# Altium footprint library SAMTEC_SSQ-105-03-S-S.PcbLib: 1 footprints
Each footprint in its own frame and in the unit in brackets; x right, y up, seen from the top. Pads: shape width x height; smd on the part's side, far side on the other; paste and mask are expansions set on the pad; w line width, h text height; cw(c..) or ccw(c..) is an arc to the next point about the centre after c.
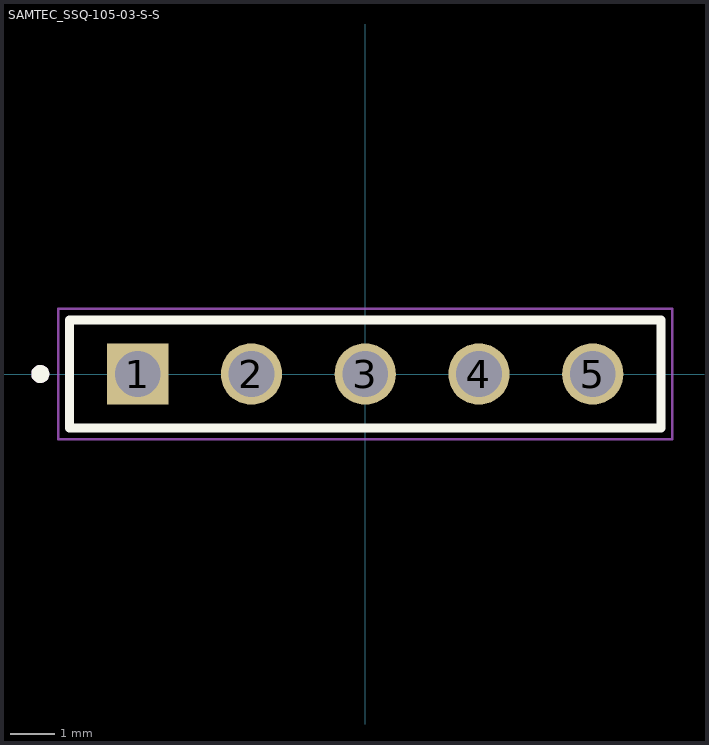
[diagram p0: the footprint, top view; thin cyan lines are the x and y axes]

## SAMTEC_SSQ-105-03-S-S [mm]
pads (5):
  rect 1.37x1.37 / inner round 1.37 / far side rect 1.37x1.37 hole 1.02: 1(-5.08,0)
  round 1.37 hole 1.02: 2(-2.54,0) 3(0,0) 4(2.54,0) 5(5.08,0)
Top Overlay:
  circle w0.2: c-7.255,0 r0.1
  lines w0.2: -6.605,-1.205 -6.605,1.205 6.605,1.205 6.605,-1.205 -6.605,-1.205
Mechanical 13:
  circle w0.2: c-7.255,0 r0.1
  lines w0.1: -6.605,-1.205 -6.605,1.205 ; -6.605,-1.205 6.605,-1.205 ; -6.605,-1.205 -6.605,1.205 ; -6.605,1.205 6.605,1.205 ; -6.605,1.205 6.605,1.205 ; 6.605,-1.205 6.605,1.205 ; 6.605,-1.205 6.605,1.205
Mechanical 15:
  lines w0.05: -6.855,-1.455 -6.855,1.455 6.855,1.455 6.855,-1.455 -6.855,-1.455
3D body "SSQ-105-03-S-S.stp": height 8.51, standoff -10.01, extent -6.604,-1.207 6.604,1.207